# EAGLE library part SATA_7_PLUS_15 (library logic-supply)
SATA 7 + 15 Connector Footprint draft only
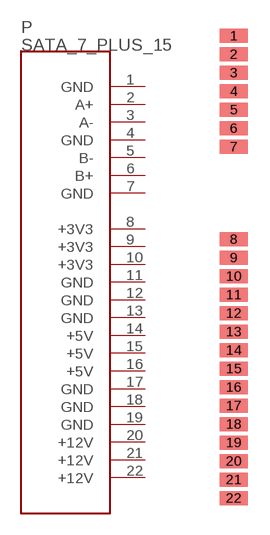
[diagram p55: symbol with the pads of SATA_7_PLUS_15; footprint SATA_7_PLUS_15]

Designator prefix P

## SATA_7_PLUS_15  [SATA_7_PLUS_15]
1  GND
2  A+
3  A-
4  GND
5  B-
6  B+
7  GND
8  +3V3
9  +3V3
10  +3V3
11  GND
12  GND
13  GND
14  +5V
15  +5V
16  +5V
17  GND
18  GND
19  GND
20  +12V
21  +12V
22  +12V

## Footprint SATA_7_PLUS_15 (pad centres in mm)
SATA 7+15 Draft Footprint - CAUTION - Un verified
smd 1.93 x 0.965: 1 0,10.795; 2 0,9.525; 3 0,8.255; 4 0,6.985; 5 0,5.715; 6 0,4.445; 7 0,3.175; 8 0,-3.175; 9 0,-4.445; 10 0,-5.715; 11 0,-6.985; 12 0,-8.255; 13 0,-9.525; 14 0,-10.795; 15 0,-12.065; 16 0,-13.335; 17 0,-14.605; 18 0,-15.875; 19 0,-17.145; 20 0,-18.415; 21 0,-19.685; 22 0,-20.955